# EAGLE library part TPS_5V_REG (library MAAV)
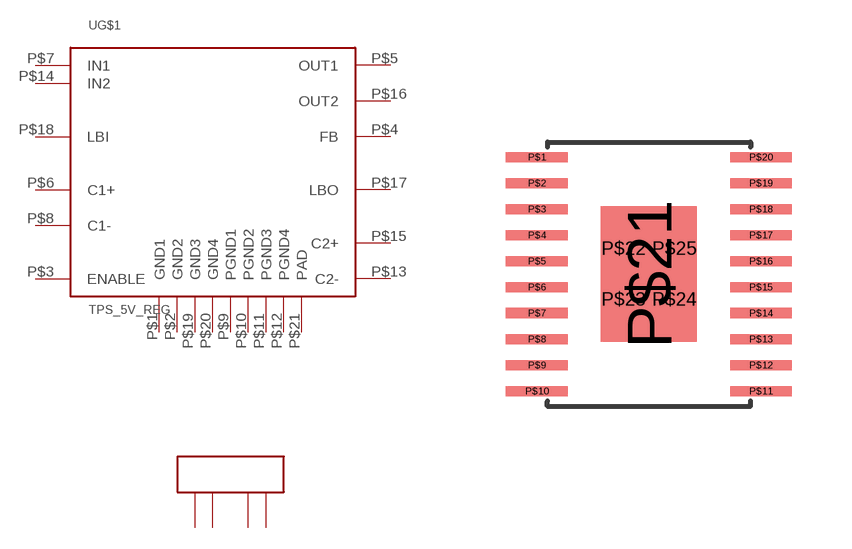
[diagram p3: symbol with the pads of TSSOP-20; footprint TSSOP-20]

Designator prefix U; gates G$1=TPS_5V_REG G$2=REG_GND

## TPS_5V_REG (DIGIKEY: 296-2271-5-ND)  [TSSOP-20]
P$1  G$1:GND1
P$2  G$1:GND2
P$3  G$1:ENABLE
P$4  G$1:FB
P$5  G$1:OUT1
P$6  G$1:C1+
P$7  G$1:IN1
P$8  G$1:C1-
P$9  G$1:PGND1
P$10  G$1:PGND2
P$11  G$1:PGND3
P$12  G$1:PGND4
P$13  G$1:C2-
P$14  G$1:IN2
P$15  G$1:C2+
P$16  G$1:OUT2
P$17  G$1:LBO
P$18  G$1:LBI
P$19  G$1:GND3
P$20  G$1:GND4
P$21  G$1:PAD
P$22  G$2:P$1
P$23  G$2:P$2
P$24  G$2:P$3
P$25  G$2:P$4

## Footprint TSSOP-20 (pad centres in mm)
smd 1.55 x 0.25: P$1 -2.8,2.925; P$2 -2.8,2.275; P$3 -2.8,1.625; P$4 -2.8,0.975; P$5 -2.8,0.325; P$6 -2.8,-0.325; P$7 -2.8,-0.975; P$8 -2.8,-1.625; P$9 -2.8,-2.275; P$10 -2.8,-2.925; P$11 2.8,-2.925; P$12 2.8,-2.275; P$13 2.8,-1.625; P$14 2.8,-0.975; P$15 2.8,-0.325; P$16 2.8,0.325; P$17 2.8,0.975; P$18 2.8,1.625; P$19 2.8,2.275; P$20 2.8,2.925
smd 2.4 x 3.38: P$21 0,0
drill 0.5: P$22 -0.635,0.635; P$23 -0.635,-0.635; P$24 0.635,-0.635; P$25 0.635,0.635